# Altium footprint library power.PcbLib: 17 footprints (part 2 of 2)
Each footprint in its own frame and in the unit in brackets; x right, y up, seen from the top. Pads: shape width x height; smd on the part's side, far side on the other; paste and mask are expansions set on the pad; w line width, h text height; cw(c..) or ccw(c..) is an arc to the next point about the centre after c.
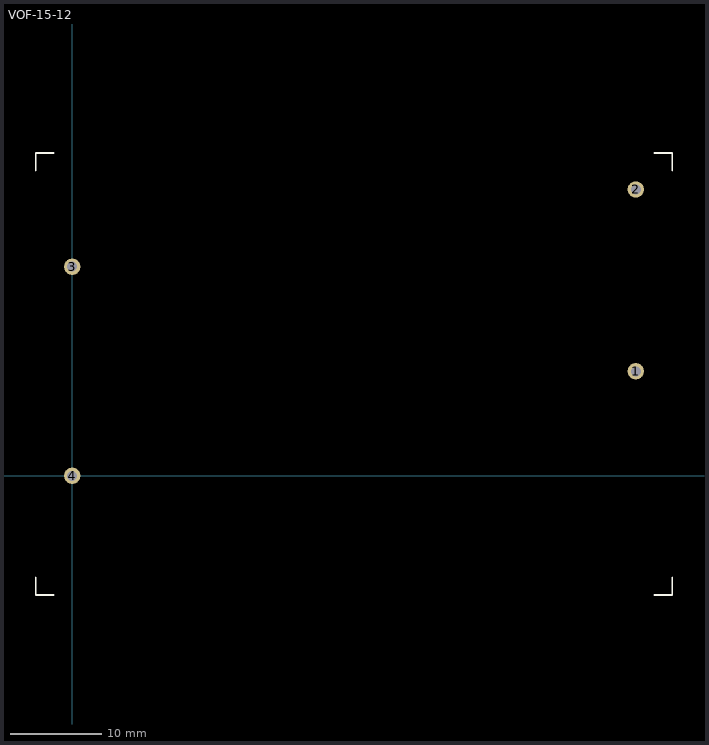
[diagram p1: the footprint, top view; thin cyan lines are the x and y axes]

## VOF-15-12 [mm]
pads (4):
  round 1.8 hole 1.1: 1(62,11.5) 2(62,31.5) 3(0,23) 4(0,0)
Top Overlay:
  lines w0.2: -4,-11.15 -4,-13.1 -2.05,-13.1 ; -4,33.55 -4,35.5 -2.05,35.5 ; 64.05,-13.1 66,-13.1 66,-11.15 ; 64.05,35.5 66,35.5 66,33.55
3D body "CUI_vof-15-12.SLDPRT": height 22.75, standoff -3.25, extent -4,-13.1 66,35.5